# Altium footprint library 自己的封装图库.PcbLib: 60 footprints (part 1 of 4)
Each footprint in its own frame and in the unit in brackets; x right, y up, seen from the top. Pads: shape width x height; smd on the part's side, far side on the other; paste and mask are expansions set on the pad; w line width, h text height; cw(c..) or ccw(c..) is an arc to the next point about the centre after c.
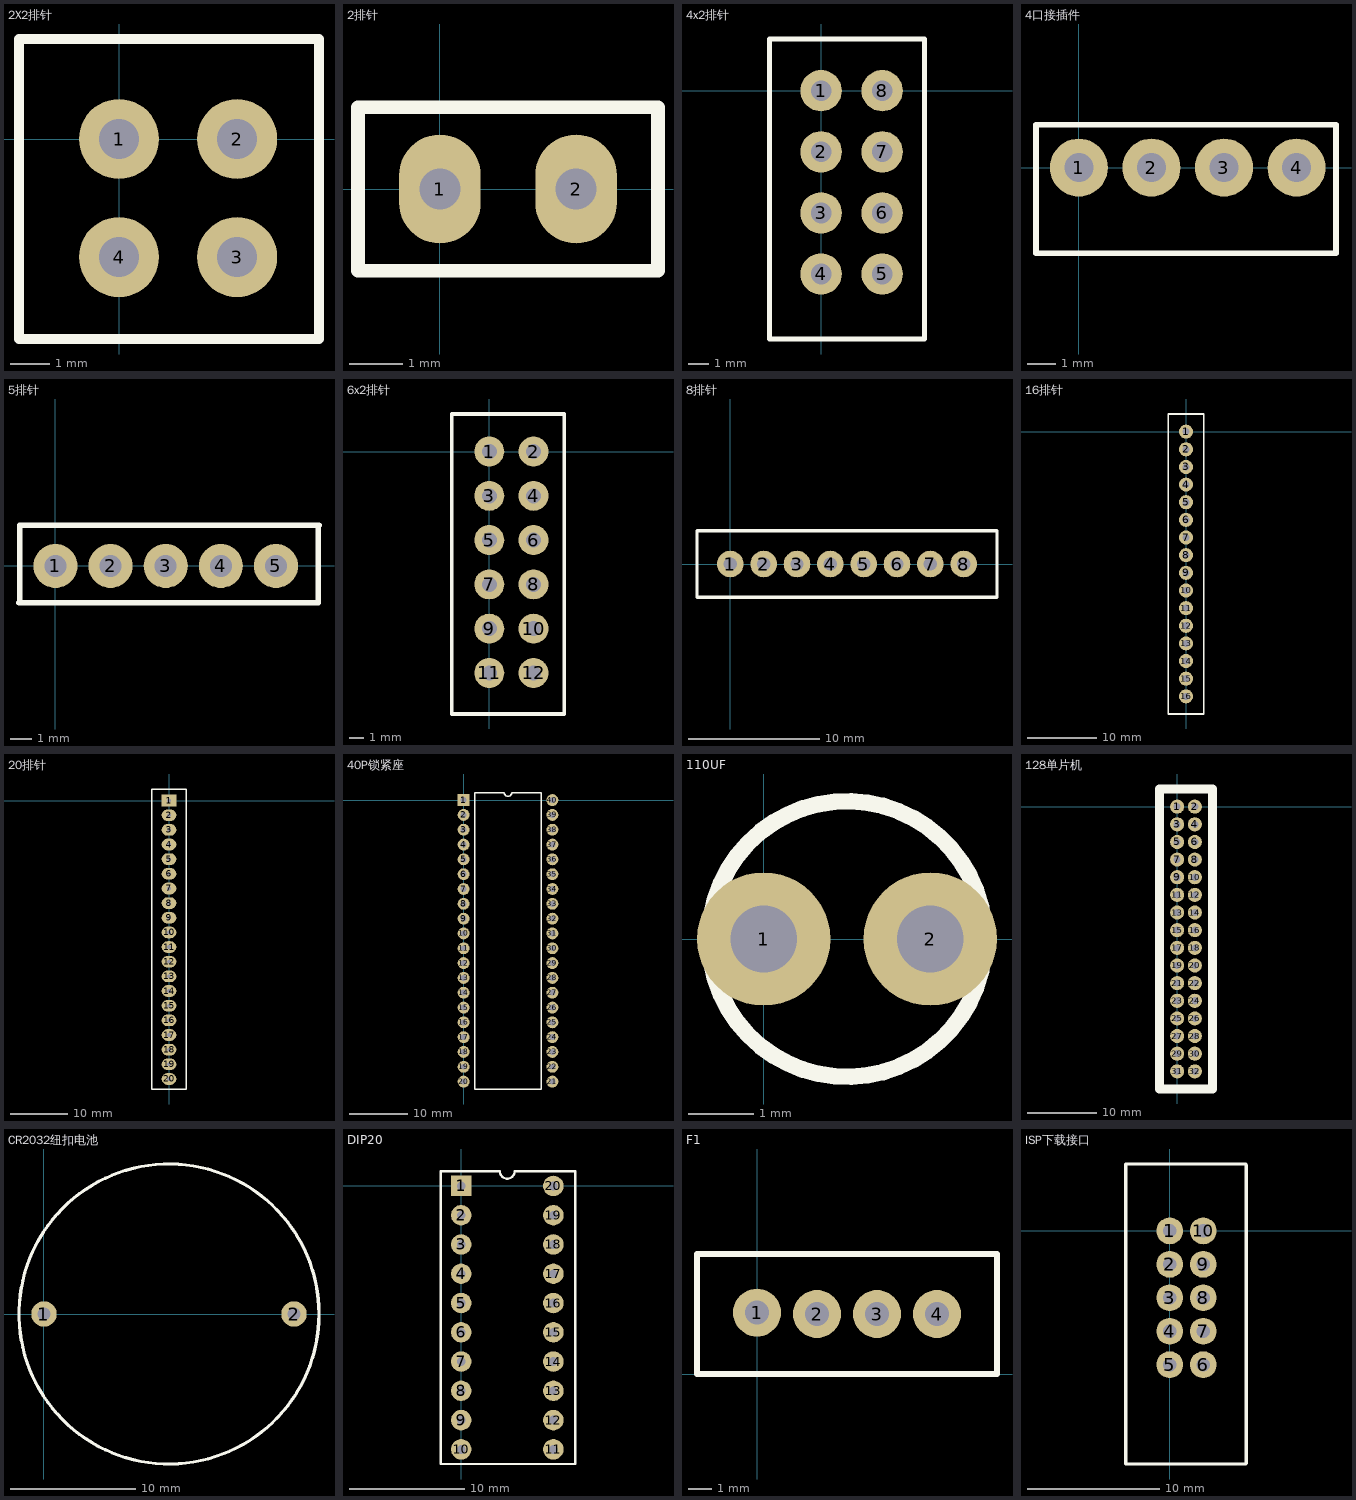
[diagram p0: the footprints below, top view; thin cyan lines are the x and y axes]

## 2X2排针 [mil]
pads (4):
  round 80 hole 40: 1(0,0) 2(118.11,0) 3(118.11,-118.11) 4(0,-118.11)
Top Overlay:
  lines w10: -100,-200 200,-200 200,100 0,100 -100,100 -100,-200

## 2排针 [mil]
pads (2):
  oval 60x80 hole 30: 1(0,0) 2(100,0)
Top Overlay:
  lines w10: -60,-60 -60,60 0,60 160,60 160,-60 -60,-60

## 4x2排针 [mil]
pads (8):
  round 80 hole 40: 1(0,0) 2(0,-118.11) 3(0,-236.22) 4(0,-354.33) 5(118.11,-354.33) 6(118.11,-236.22) 7(118.11,-118.11) 8(118.11,0)
Top Overlay:
  lines w10: -100,-480 200,-480 200,100 0,100 -100,100 -100,-480

## 4口接插件 [mil]
pads (4):
  round 80 hole 40: 1(0,0) 2(100,0) 3(200,0) 4(300,0)
Top Overlay:
  lines w7.87: -59.06,-118.11 -59.06,59.06 0,59.06 354.33,59.06 354.33,-118.11 -59.06,-118.11

## 5排针 [mil]
pads (5):
  round 80 hole 40: 1(0,0) 2(100,0) 3(200,0) 4(300,0) 5(400,0)
Top Overlay:
  lines w10: -66,-67 477,-67 477,73 478,74 -65,74 -65,-66 -66,-67

## 6x2排针 [mil]
pads (12):
  round 80 hole 40: 1(0,0) 2(118.11,0) 3(0,-118.11) 4(118.11,-118.11) 5(0,-236.22) 6(118.11,-236.22) 7(0,-354.33) 8(118.11,-354.33) 9(0,-472.44) 10(118.11,-472.44) 11(0,-590.55) 12(118.11,-590.55)
Top Overlay:
  lines w10: -100,-700 200,-700 200,100 0,100 -100,100 -100,-700

## 8排针 [mil]
pads (8):
  round 80 hole 40: 1(0,0) 2(100,0) 3(200,0) 4(300,0) 5(400,0) 6(500,0) 7(600,0) 8(700,0)
Top Overlay:
  lines w10: -100,-100 800,-100 800,100 -100,100 -100,0 -100,-100

## 16排针 [mil]
pads (16):
  round 80 hole 40: 1(0,0) 2(0,-100) 3(0,-200) 4(0,-300) 5(0,-400) 6(0,-500) 7(0,-600) 8(0,-700) 9(0,-800) 10(0,-900) 11(0,-1000) 12(0,-1100) 13(0,-1200) 14(0,-1300) 15(0,-1400) 16(0,-1500)
Top Overlay:
  lines w10: -100,-1600 -100,100 100,100 100,-1600 -100,-1600

## 20排针 [mil]
pads (20):
  rect 100x80 hole 25: 1(0,0)
  oval 100x80 hole 25: 2(0,-100) 3(0,-200) 4(0,-300) 5(0,-400) 6(0,-500) 7(0,-600) 8(0,-700) 9(0,-800) 10(0,-900) 11(0,-1000) 12(0,-1100) 13(0,-1200) 14(0,-1300) 15(0,-1400) 16(0,-1500) 17(0,-1600) 18(0,-1700) 19(0,-1800) 20(0,-1900)
Top Overlay:
  lines w10: -118.11,-1968.5 118.11,-1968.5 118.11,78.74 -118.11,78.74 -118.11,-1968.5

## 40P锁紧座 [mil]
pads (40):
  rect 80x80 hole 40: 1(0,0)
  round 80 hole 40: 2(0,-100) 3(0,-200) 4(0,-300) 5(0,-400) 6(0,-500) 7(0,-600) 8(0,-700) 9(0,-800) 10(0,-900) 11(0,-1000) 12(0,-1100) 13(0,-1200) 14(0,-1300) 15(0,-1400) 16(0,-1500) 17(0,-1600) 18(0,-1700) 19(0,-1800) 20(0,-1900) 21(600,-1900) 22(600,-1800) 23(600,-1700) 24(600,-1600) 25(600,-1500) 26(600,-1400) 27(600,-1300) 28(600,-1200) 29(600,-1100) 30(600,-1000) 31(600,-900) 32(600,-800) 33(600,-700) 34(600,-600) 35(600,-500) 36(600,-400) 37(600,-300) 38(600,-200) 39(600,-100) 40(600,0)
Top Overlay:
  lines w10: 75,-1950 525,-1950 525,50 325,50 cw(c300,50) 275,50 75,50 75,-1950

## 110UF [mil]
pads (2):
  round 80 hole 40: 1(0,0) 2(100,0)
Top Overlay:
  circle w10: c50,0 r82.68

## 128单片机 [mil]
pads (32):
  round 80 hole 40: 1(0,0) 2(100,0) 3(0,-100) 4(100,-100) 5(0,-200) 6(100,-200) 7(0,-300) 8(100,-300) 9(0,-400) 10(100,-400) 11(0,-500) 12(100,-500) 13(0,-600) 14(100,-600) 15(0,-700) 16(100,-700) 17(0,-800) 18(100,-800) 19(0,-900) 20(100,-900) 21(0,-1000) 22(100,-1000) 23(0,-1100) 24(100,-1100) 25(0,-1200) 26(100,-1200) 27(0,-1300) 28(100,-1300) 29(0,-1400) 30(100,-1400) 31(0,-1500) 32(100,-1500)
Top Overlay:
  lines w50: -100,-1600 -100,100 200,100 200,-1600 -100,-1600

## CR2032纽扣电池 [mil]
pads (2):
  round 80 hole 40: 1(0,0) 2(787.4,0)
Top Overlay:
  circle w10: c393.7,0 r472.44

## DIP20 [mil]
pads (20):
  rect 70x70 hole 30: 1(0,0)
  round 70 hole 30: 2(0,-100) 3(0,-200) 4(0,-300) 5(0,-400) 6(0,-500) 7(0,-600) 8(0,-700) 9(0,-800) 10(0,-900) 11(314.96,-900) 12(314.96,-800) 13(314.96,-700) 14(314.96,-600) 15(314.96,-500) 16(314.96,-400) 17(314.96,-300) 18(314.96,-200) 19(314.96,-100) 20(314.96,0)
Top Overlay:
  lines w7.87: -70,-950 72.24,-950 242.72,-950 390,-950 390,50 370,50 242.72,50 182.48,50 cw(c157.48,50) 132.48,50 72.24,50 -70,50 -70,-950

## F1 [mil]
pads (4):
  round 80 hole 40: 1(0,102.36) 2(100,100) 3(200,100) 4(300,100)
Top Overlay:
  lines w10: -100,0 -100,200 400,200 400,0 -100,0

## ISP下载接口 [mil]
pads (10):
  round 80 hole 40: 1(0,0) 2(0,-100) 3(0,-200) 4(0,-300) 5(0,-400) 6(100,-400) 7(100,-300) 8(100,-200) 9(100,-100) 10(100,0)
Top Overlay:
  lines w10: 227,-697 -132,-697 -132,200 226,200 229,197 229,-695